# Altium schematic symbol library Sensor_Magnetic.SchLib: 64 symbols
Pins are listed as number, name and electrical type; pins without a type are passive.

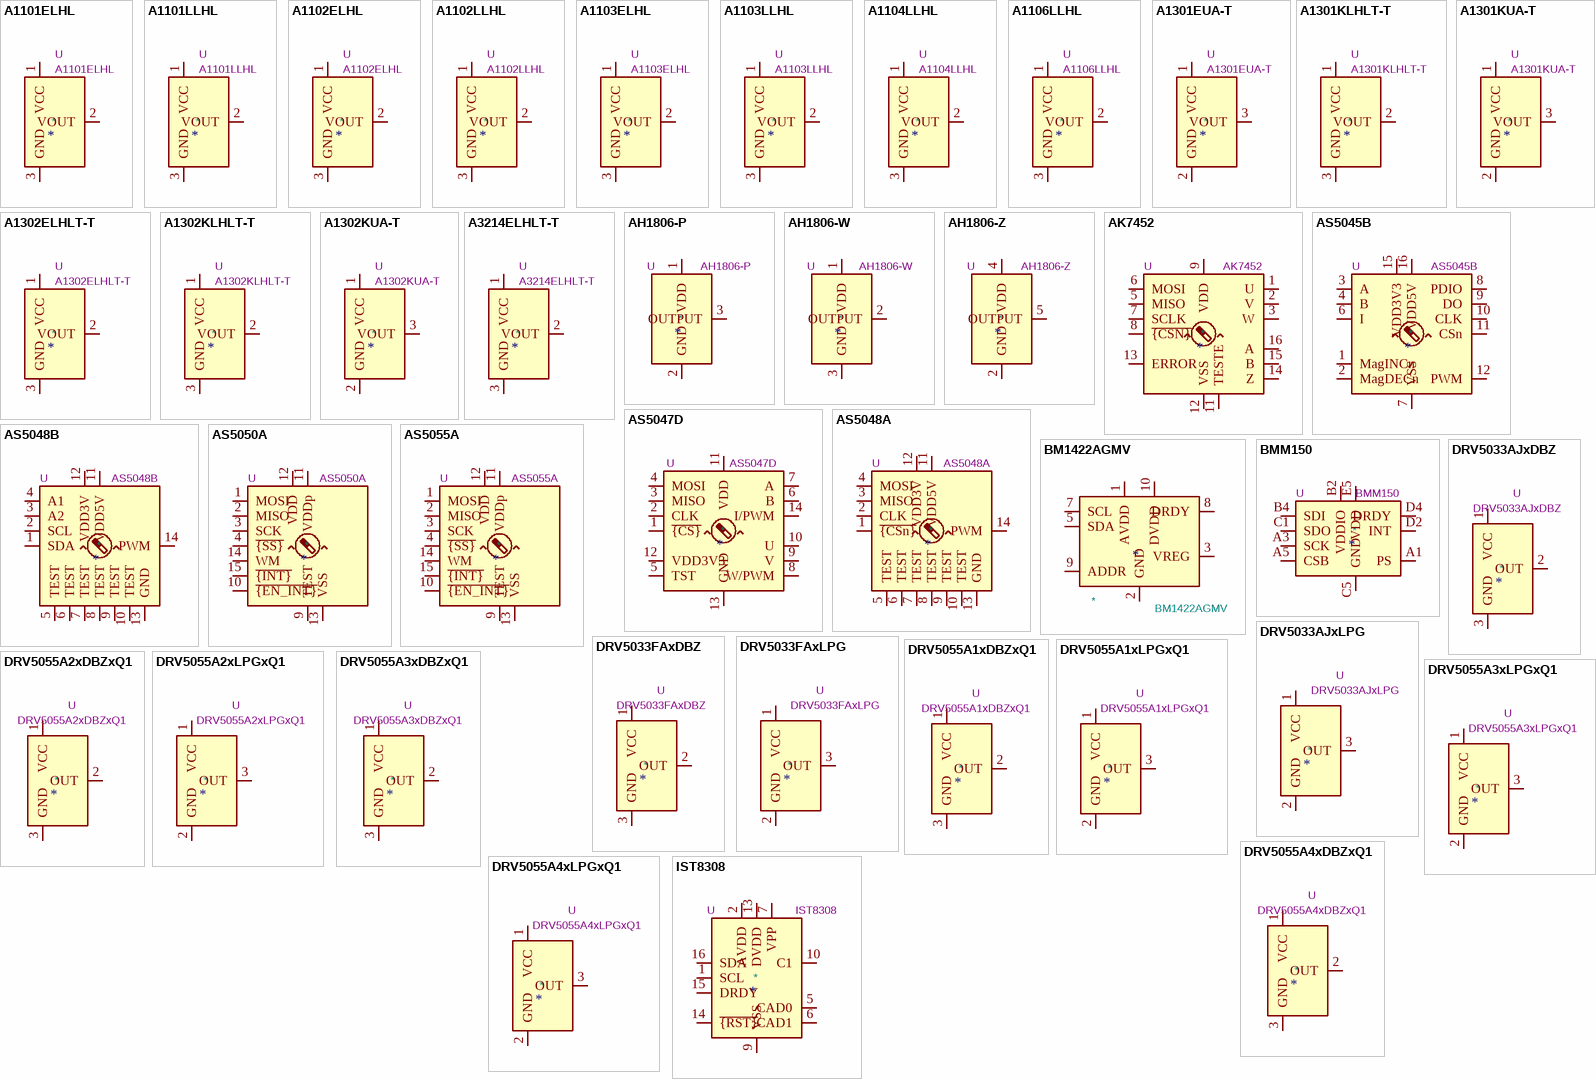
[diagram p0: symbols A1101ELHL to IST8308]

## A1101ELHL
designator *  value A1101ELHL  Reference: U
ki_keywords: hall switch; ki_description: Hall effect switch, unipolar, Bop=100G, Brp=45G, -40C to +85C, SOT-23W; ki_fp_filters: SOT?23*; Footprint: Package_TO_SOT_SMD:SOT-23W; Datasheet: https://www.allegromicro.com/-/media/files/datasheets/a110x-datasheet.ashx
pins: 1 VCC, 2 VOUT, 3 GND

## A1101LLHL
designator *  value A1101LLHL  Reference: U
ki_keywords: hall switch; ki_description: Hall effect switch, unipolar, Bop=100G, Brp=45G, -40C to +125C, SOT-23W; ki_fp_filters: SOT?23*; Footprint: Package_TO_SOT_SMD:SOT-23W; Datasheet: https://www.allegromicro.com/-/media/files/datasheets/a110x-datasheet.ashx
pins: 1 VCC, 2 VOUT, 3 GND

## A1102ELHL
designator *  value A1102ELHL  Reference: U
ki_keywords: hall switch; ki_description: Hall effect switch, unipolar, Bop=180G, Brp=125G, -40C to +85C, SOT-23W; ki_fp_filters: SOT?23*; Footprint: Package_TO_SOT_SMD:SOT-23W; Datasheet: https://www.allegromicro.com/-/media/files/datasheets/a110x-datasheet.ashx
pins: 1 VCC, 2 VOUT, 3 GND

## A1102LLHL
designator *  value A1102LLHL  Reference: U
ki_keywords: hall switch; ki_description: Hall effect switch, unipolar, Bop=180G, Brp=125G, -40C to +125C, SOT-23W; ki_fp_filters: SOT?23*; Footprint: Package_TO_SOT_SMD:SOT-23W; Datasheet: https://www.allegromicro.com/-/media/files/datasheets/a110x-datasheet.ashx
pins: 1 VCC, 2 VOUT, 3 GND

## A1103ELHL
designator *  value A1103ELHL  Reference: U
ki_keywords: hall switch; ki_description: Hall effect switch, unipolar, Bop=280G, Brp=225G, -40C to +85C, SOT-23W; ki_fp_filters: SOT?23*; Footprint: Package_TO_SOT_SMD:SOT-23W; Datasheet: https://www.allegromicro.com/-/media/files/datasheets/a110x-datasheet.ashx
pins: 1 VCC, 2 VOUT, 3 GND

## A1103LLHL
designator *  value A1103LLHL  Reference: U
ki_keywords: hall switch; ki_description: Hall effect switch, unipolar, Bop=280G, Brp=225G, -40C to +125C, SOT-23W; ki_fp_filters: SOT?23*; Footprint: Package_TO_SOT_SMD:SOT-23W; Datasheet: https://www.allegromicro.com/-/media/files/datasheets/a110x-datasheet.ashx
pins: 1 VCC, 2 VOUT, 3 GND

## A1104LLHL
designator *  value A1104LLHL  Reference: U
ki_keywords: hall switch; ki_description: Hall effect switch, unipolar, Bop=240G, Brp=200G, -40C to +125C, SOT-23W; ki_fp_filters: SOT?23*; Footprint: Package_TO_SOT_SMD:SOT-23W; Datasheet: https://www.allegromicro.com/-/media/files/datasheets/a110x-datasheet.ashx
pins: 1 VCC, 2 VOUT, 3 GND

## A1106LLHL
designator *  value A1106LLHL  Reference: U
ki_keywords: hall switch; ki_description: Hall effect switch, unipolar, Bop=340G, Brp=240G, -40C to +125C, SOT-23W; ki_fp_filters: SOT?23*; Footprint: Package_TO_SOT_SMD:SOT-23W; Datasheet: https://www.allegromicro.com/-/media/files/datasheets/a110x-datasheet.ashx
pins: 1 VCC, 2 VOUT, 3 GND

## A1301EUA-T
designator *  value A1301EUA-T  Reference: U
ki_keywords: hall switch; ki_description: Linear Hall Effect Sensor, SIP 3pin; Datasheet: http://www.allegromicro.com/~/media/Files/Datasheets/A1301-2-Datasheet.ashx
pins: 1 VCC, 2 GND, 3 VOUT

## A1301KLHLT-T
designator *  value A1301KLHLT-T  Reference: U
ki_keywords: hall switch; ki_description: Linear Hall Effect Sensor, SOT-23W; ki_fp_filters: SOT?23W*; Footprint: Package_TO_SOT_SMD:SOT-23W; Datasheet: http://www.allegromicro.com/~/media/Files/Datasheets/A1301-2-Datasheet.ashx
pins: 1 VCC, 2 VOUT, 3 GND

## A1301KUA-T
designator *  value A1301KUA-T  Reference: U
ki_keywords: hall switch; ki_description: Linear Hall Effect Sensor, SIP 3pin; Datasheet: http://www.allegromicro.com/~/media/Files/Datasheets/A1301-2-Datasheet.ashx
pins: 1 VCC, 2 GND, 3 VOUT

## A1302ELHLT-T
designator *  value A1302ELHLT-T  Reference: U
ki_keywords: hall switch; ki_description: Linear Hall Effect Sensor, SOT-23W; ki_fp_filters: SOT?23W*; Footprint: Package_TO_SOT_SMD:SOT-23W; Datasheet: http://www.allegromicro.com/~/media/Files/Datasheets/A1301-2-Datasheet.ashx
pins: 1 VCC, 2 VOUT, 3 GND

## A1302KLHLT-T
designator *  value A1302KLHLT-T  Reference: U
ki_keywords: hall switch; ki_description: Linear Hall Effect Sensor, SOT-23W; ki_fp_filters: SOT?23W*; Footprint: Package_TO_SOT_SMD:SOT-23W; Datasheet: http://www.allegromicro.com/~/media/Files/Datasheets/A1301-2-Datasheet.ashx
pins: 1 VCC, 2 VOUT, 3 GND

## A1302KUA-T
designator *  value A1302KUA-T  Reference: U
ki_keywords: hall switch; ki_description: Linear Hall Effect Sensor, SIP 3pin; Datasheet: http://www.allegromicro.com/~/media/Files/Datasheets/A1301-2-Datasheet.ashx
pins: 1 VCC, 2 GND, 3 VOUT

## A3214ELHLT-T
designator *  value A3214ELHLT-T  Reference: U
ki_keywords: hall switch; ki_description: Linear Hall Effect Sensor, SOT-23W; ki_fp_filters: SOT?23W*; Footprint: Package_TO_SOT_SMD:SOT-23W; Datasheet: http://www.allegromicro.com/~/media/Files/Datasheets/A3213-4-Datasheet.ashx
pins: 1 VCC, 2 VOUT, 3 GND

## AH1806-P
designator *  value AH1806-P  Reference: U
ki_keywords: hall switch; ki_description: High Sensitivity Micropower Omnipolar Hall-Effect Switch, SIP-3; ki_fp_filters: Diodes*SIP*4.1x1.5mm*P1.27mm* Diodes*SIP*4.1x1.5mm*P2.65mm*; Datasheet: https://www.diodes.com/assets/Datasheets/AH1806.pdf
pins: 1 VDD, 2 GND, 3 OUTPUT

## AH1806-W
designator *  value AH1806-W  Reference: U
ki_keywords: hall switch; ki_description: High Sensitivity Micropower Omnipolar Hall-Effect Switch, SC-59; ki_fp_filters: SC?59*; Footprint: Package_TO_SOT_SMD:SC-59; Datasheet: https://www.diodes.com/assets/Datasheets/AH1806.pdf
pins: 1 VDD, 2 OUTPUT, 3 GND

## AH1806-Z
designator *  value AH1806-Z  Reference: U
ki_keywords: hall switch; ki_description: High Sensitivity Micropower Omnipolar Hall-Effect Switch, SOT-553; ki_fp_filters: SOT*553*; Footprint: Package_TO_SOT_SMD:SOT-553; Datasheet: https://www.diodes.com/assets/Datasheets/AH1806.pdf
pins: 1 NC hidden, 2 GND, 3 NC hidden, 4 VDD, 5 OUTPUT

## AK7452
designator *  value AK7452  Reference: U
ki_keywords: sensor magnetic hall position rotation spi; ki_description: Magnetic rotary angle sensor, 14-bit, SPI interface, ABZ, UVW, TSSOP-16; ki_fp_filters: TSSOP*4.4x5mm*P0.65mm*; Footprint: Package_SO:TSSOP-16_4.4x5mm_P0.65mm; Datasheet: https://www.akm.com/akm/en/file/datasheet/AK7452.pdf
pins: 1 U, 2 V, 3 W, 4 NC hidden, 5 MISO, 6 MOSI, 7 SCLK, 8 ~{{CSN}}, 9 VDD, 10 NC hidden, 11 TESTE, 12 VSS, 13 ERROR, 14 Z, 15 B, 16 A

## AS5045B
designator *  value AS5045B  Reference: U
ki_keywords: Magnetic Hall Encoder; ki_description: Magnetic Position Sensor, 12-bit, PWM Output, ABI Output, SPI Interface, SSOP-16; ki_fp_filters: SSOP*5.3x6.2mm*P0.65mm*; Footprint: Package_SO:SSOP-16_5.3x6.2mm_P0.65mm; Datasheet: https://ams.com/documents/20143/36005/AS5045B_DS000397_2-00.pdf
pins: 1 MagINCn, 2 MagDECn, 3 A, 4 B, 5 NC hidden, 6 I, 7 VSS, 8 PDIO, 9 DO, 10 CLK, 11 CSn, 12 PWM, 13 NC hidden, 14 NC hidden, 15 VDD3V3, 16 VDD5V

## AS5047D
designator *  value AS5047D  Reference: U
ki_keywords: Magnetic Hall Sensor; ki_description: On-Axis Magnetic Position Sensor, 14-bit, PWM Output, ABI Output, UVW Output, SPI Interface, TSSOP-14; ki_fp_filters: TSSOP*4.4x5mm*P0.65mm*; Footprint: Package_SO:TSSOP-14_4.4x5mm_P0.65mm; Datasheet: https://ams.com/documents/20143/36005/AS5047D_DS000394_2-00.pdf
pins: 1 ~{{CS}}, 2 CLK, 3 MISO, 4 MOSI, 5 TST, 6 B, 7 A, 8 W/PWM, 9 V, 10 U, 11 VDD, 12 VDD3V3, 13 GND, 14 I/PWM

## AS5048A
designator *  value AS5048A  Reference: U
ki_keywords: sensor magnetic hall position rotation spi; ki_description: Magnetic position sensor, 14-bit, PWM output, SPI Interface, TSSOP-14; ki_fp_filters: TSSOP*4.4x5mm*P0.65mm*; Footprint: Package_SO:TSSOP-14_4.4x5mm_P0.65mm; Datasheet: https://ams.com/documents/20143/36005/AS5048_DS000298_4-00.pdf
pins: 1 ~{{CSn}}, 2 CLK, 3 MISO, 4 MOSI, 5 TEST, 6 TEST, 7 TEST, 8 TEST, 9 TEST, 10 TEST, 11 VDD5V, 12 VDD3V, 13 GND, 14 PWM

## AS5048B
designator *  value AS5048B  Reference: U
ki_keywords: sensor magnetic hall position rotation i2c; ki_description: Magnetic position sensor, 14-bit, PWM output, I2C Interface, TSSOP-14; ki_fp_filters: TSSOP*4.4x5mm*P0.65mm*; Footprint: Package_SO:TSSOP-14_4.4x5mm_P0.65mm; Datasheet: https://ams.com/documents/20143/36005/AS5048_DS000298_4-00.pdf
pins: 1 SDA, 2 SCL, 3 A2, 4 A1, 5 TEST, 6 TEST, 7 TEST, 8 TEST, 9 TEST, 10 TEST, 11 VDD5V, 12 VDD3V, 13 GND, 14 PWM

## AS5050A
designator *  value AS5050A  Reference: U
ki_keywords: sensor magnetic hall position rotation spi; ki_description: Magnetic position sensor, 10-bit, SPI interface, QFN-16; ki_fp_filters: QFN*1EP*4x4mm*P0.65mm*PullBack*; Footprint: Package_DFN_QFN:QFN-16-1EP_4x4mm_P0.65mm_EP2.7x2.7mm_PullBack; Datasheet: https://ams.com/documents/20143/36005/AS5055A_DS000304_2-00.pdf
pins: 1 MOSI, 2 MISO, 3 SCK, 4 ~{{SS}}, 5 NC hidden, 6 NC hidden, 7 NC hidden, 8 NC hidden, 9 TEST, 10 ~{{EN_INT}}, 11 VDDp, 12 VDD, 13 VSS, 14 WM, 15 ~{{INT}}, 16 NC hidden, 17 NC hidden

## AS5055A
designator *  value AS5055A  Reference: U
ki_keywords: sensor magnetic hall position rotation spi; ki_description: Magnetic position sensor, 12-bit, SPI interface, QFN-16; ki_fp_filters: QFN*1EP*4x4mm*P0.65mm*PullBack*; Footprint: Package_DFN_QFN:QFN-16-1EP_4x4mm_P0.65mm_EP2.7x2.7mm_PullBack; Datasheet: https://ams.com/documents/20143/36005/AS5055A_DS000304_2-00.pdf
pins: 1 MOSI, 2 MISO, 3 SCK, 4 ~{{SS}}, 5 NC hidden, 6 NC hidden, 7 NC hidden, 8 NC hidden, 9 TEST, 10 ~{{EN_INT}}, 11 VDDp, 12 VDD, 13 VSS, 14 WM, 15 ~{{INT}}, 16 NC hidden, 17 NC hidden

## BM1422AGMV
designator *  value BM1422AGMV
ki_keywords: 3D 3axis magnetometer magnetic sensor I2C; ki_description: Low power 3axis magnetic sensor, I2C interface, MLGA010V020A; ki_fp_filters: *MLGA010V020A*; Footprint: Package_LGA:Rohm_MLGA010V020A_LGA-10_2x2mm_P0.45mm_LayoutBorder_3x2y; Supplier: https://fscdn.rohm.com/en/products/databook/datasheet/ic/sensor/geomagnetic/bm1422agmv-e.pdf
footprint Rohm_MLGA010V020A_LGA-10_2x2mm_P0.45mm_LayoutBorder_3x2y
pins: 1 AVDD, 2 GND, 3 VREG, 4 TEST1 hidden, 5 SDA, 6 TEST2 hidden, 7 SCL, 8 DRDY, 9 ADDR, 10 DVDD

## BMM150
designator *  value BMM150  Reference: U
ki_keywords: BOSH Geomagnetic Sensor; ki_description: Geomagnetic Sensor, WLCSP-12; ki_fp_filters: WLCSP*1.56x1.56mm*P0.4mm*; Footprint: Package_CSP:WLCSP-12_1.56x1.56mm_P0.4mm; Datasheet: https://www.mouser.com/datasheet/2/783/BST-BMM150-DS001-01-786480.pdf
pins: A1 PS, A3 SCK, A5 CSB, B2 VDDIO, B4 SDI, C1 SDO, C5 GND, D2 INT, D4 DRDY, E1 GND hidden, E3 GND hidden, E5 VDD

## DRV5033AJxDBZ
designator *  value DRV5033AJxDBZ  Reference: U
ki_keywords: Digital Omnipolar Switch Hall Effect Sensor; ki_description: ±6.9 / ±3.5 mT, 20-kHz, 2-38V, SOT-23; ki_fp_filters: SOT?23*; Footprint: Package_TO_SOT_SMD:SOT-23; Datasheet: https://www.ti.com/lit/ds/symlink/drv5033.pdf
pins: 1 VCC, 2 OUT, 3 GND

## DRV5033AJxLPG
designator *  value DRV5033AJxLPG  Reference: U
ki_keywords: Digital Omnipolar Switch Hall Effect Sensor; ki_description: ±6.9 / ±3.5 mT, 20-kHz, 2-38V, TO-92; ki_fp_filters: TO?92*; Footprint: Package_TO_SOT_THT:TO-92_Inline; Datasheet: https://www.ti.com/lit/ds/symlink/drv5033.pdf
pins: 1 VCC, 2 GND, 3 OUT

## DRV5033FAxDBZ
designator *  value DRV5033FAxDBZ  Reference: U
ki_keywords: Digital Omnipolar Switch Hall Effect Sensor; ki_description: ±3.5 / ±2 mT, 20-kHz, 2-38V, SOT-23; ki_fp_filters: SOT?23*; Footprint: Package_TO_SOT_SMD:SOT-23; Datasheet: https://www.ti.com/lit/ds/symlink/drv5033.pdf
pins: 1 VCC, 2 OUT, 3 GND

## DRV5033FAxLPG
designator *  value DRV5033FAxLPG  Reference: U
ki_keywords: Digital Omnipolar Switch Hall Effect Sensor; ki_description: ±3.5 / ±2 mT, 20-kHz, 2-38V, TO-92; ki_fp_filters: TO?92*; Footprint: Package_TO_SOT_THT:TO-92_Inline; Datasheet: https://www.ti.com/lit/ds/symlink/drv5033.pdf
pins: 1 VCC, 2 GND, 3 OUT

## DRV5055A1xDBZxQ1
designator *  value DRV5055A1xDBZxQ1  Reference: U
ki_keywords: Automotive Ratiometric Linear Hall Effect Sensor AEC-Q100; ki_description: 100 mV/mT,±21-mT, 20-kHz, 3.3/5V, SOT-23; ki_fp_filters: SOT?23*; Footprint: Package_TO_SOT_SMD:SOT-23; Datasheet: https://www.ti.com/lit/ds/symlink/drv5055-q1.pdf
pins: 1 VCC, 2 OUT, 3 GND

## DRV5055A1xLPGxQ1
designator *  value DRV5055A1xLPGxQ1  Reference: U
ki_keywords: Automotive Ratiometric Linear Hall Effect Sensor AEC-Q100; ki_description: 100 mV/mT,±21-mT, 20-kHz, 3.3/5V, TO-92; ki_fp_filters: TO?92*; Footprint: Package_TO_SOT_THT:TO-92_Inline; Datasheet: https://www.ti.com/lit/ds/symlink/drv5055-q1.pdf
pins: 1 VCC, 2 GND, 3 OUT

## DRV5055A2xDBZxQ1
designator *  value DRV5055A2xDBZxQ1  Reference: U
ki_keywords: Automotive Ratiometric Linear Hall Effect Sensor AEC-Q100; ki_description: 50 mV/mT,±42-mT, 20-kHz, 3.3/5V, SOT-23; ki_fp_filters: SOT?23*; Footprint: Package_TO_SOT_SMD:SOT-23; Datasheet: https://www.ti.com/lit/ds/symlink/drv5055-q1.pdf
pins: 1 VCC, 2 OUT, 3 GND

## DRV5055A2xLPGxQ1
designator *  value DRV5055A2xLPGxQ1  Reference: U
ki_keywords: Automotive Ratiometric Linear Hall Effect Sensor AEC-Q100; ki_description: 50 mV/mT,±42-mT, 20-kHz, 3.3/5V, TO-92; ki_fp_filters: TO?92*; Footprint: Package_TO_SOT_THT:TO-92_Inline; Datasheet: https://www.ti.com/lit/ds/symlink/drv5055-q1.pdf
pins: 1 VCC, 2 GND, 3 OUT

## DRV5055A3xDBZxQ1
designator *  value DRV5055A3xDBZxQ1  Reference: U
ki_keywords: Automotive Ratiometric Linear Hall Effect Sensor AEC-Q100; ki_description: 25 mV/mT,±85-mT, 20-kHz, 3.3/5V, SOT-23; ki_fp_filters: SOT?23*; Footprint: Package_TO_SOT_SMD:SOT-23; Datasheet: https://www.ti.com/lit/ds/symlink/drv5055-q1.pdf
pins: 1 VCC, 2 OUT, 3 GND

## DRV5055A3xLPGxQ1
designator *  value DRV5055A3xLPGxQ1  Reference: U
ki_keywords: Automotive Ratiometric Linear Hall Effect Sensor AEC-Q100; ki_description: 25 mV/mT,±85-mT, 20-kHz, 3.3/5V, TO-92; ki_fp_filters: TO?92*; Footprint: Package_TO_SOT_THT:TO-92_Inline; Datasheet: https://www.ti.com/lit/ds/symlink/drv5055-q1.pdf
pins: 1 VCC, 2 GND, 3 OUT

## DRV5055A4xDBZxQ1
designator *  value DRV5055A4xDBZxQ1  Reference: U
ki_keywords: Automotive Ratiometric Linear Hall Effect Sensor AEC-Q100; ki_description: 12.5 mV/mT,±169-mT, 20-kHz, 3.3/5V, SOT-23; ki_fp_filters: SOT?23*; Footprint: Package_TO_SOT_SMD:SOT-23; Datasheet: https://www.ti.com/lit/ds/symlink/drv5055-q1.pdf
pins: 1 VCC, 2 OUT, 3 GND

## DRV5055A4xLPGxQ1
designator *  value DRV5055A4xLPGxQ1  Reference: U
ki_keywords: Automotive Ratiometric Linear Hall Effect Sensor AEC-Q100; ki_description: 12.5mV/mT,±169-mT, 20-kHz, 3.3/5V, TO-92; ki_fp_filters: TO?92*; Footprint: Package_TO_SOT_THT:TO-92_Inline; Datasheet: https://www.ti.com/lit/ds/symlink/drv5055-q1.pdf
pins: 1 VCC, 2 GND, 3 OUT

## IST8308
designator *  value IST8308  Reference: U
ki_keywords: magnet field sensor compass; ki_description: 3D Magnetometer, High Sensitivity, I2C Interface, LGA-16; ki_fp_filters: LGA*3x3mm*P0.5mm*; Footprint: Package_LGA:LGA-16_3x3mm_P0.5mm; Datasheet: http://www.isentek.com/en/dlf.php?file=../ISENTEK/(201703-20)IST8308%20Datasheet%20v1.0_brief.pdf
pins: 1 SCL, 2 AVDD, 3 NC hidden, 4 NC hidden, 5 CAD0, 6 CAD1, 7 VPP, 8 NC hidden, 9 VSS, 10 C1, 11 VSS hidden, 12 NC hidden, 13 DVDD, 14 ~{{RST}}, 15 DRDY, 16 SDA

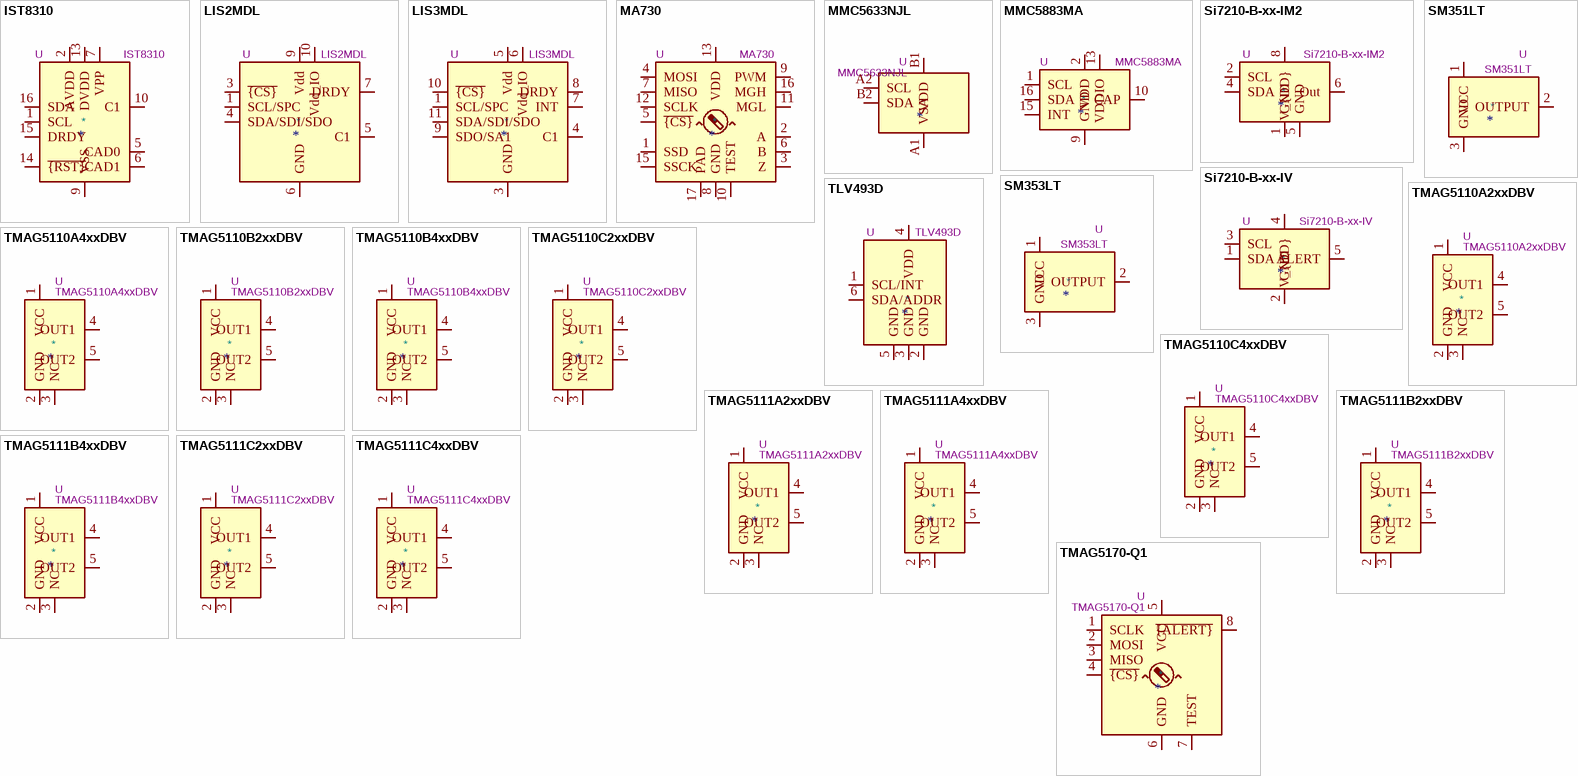
[diagram p1: symbols IST8310 to TMAG5170-Q1]

## IST8310
designator *  value IST8310  Reference: U
ki_keywords: magnet field sensor compass; ki_description: 3D Magnetometer, I2C Interface, LGA-16; ki_fp_filters: LGA*3x3mm*P0.5mm*; Footprint: Package_LGA:LGA-16_3x3mm_P0.5mm; Datasheet: http://www.isentek.com/en/dlf.php?file=../ISENTEK/(201703-09)IST8310%20Datasheet%20v1.2_brief-105.09.20.pdf
pins: 1 SCL, 2 AVDD, 3 NC hidden, 4 NC hidden, 5 CAD0, 6 CAD1, 7 VPP, 8 NC hidden, 9 VSS, 10 C1, 11 VSS hidden, 12 NC hidden, 13 DVDD, 14 ~{{RST}}, 15 DRDY, 16 SDA

## LIS2MDL
designator *  value LIS2MDL  Reference: U
ki_keywords: digital magnetometer; ki_description: Ultra-low-power, 3-axis digital output magnetometer, LGA-12; ki_fp_filters: LGA*2x2mm*P0.5mm*; Footprint: Package_LGA:LGA-12_2x2mm_P0.5mm; Datasheet: https://www.st.com/resource/en/datasheet/lis2mdl.pdf
pins: 1 SCL/SPC, 2 NC hidden, 3 ~{{CS}}, 4 SDA/SDI/SDO, 5 C1, 6 GND, 7 DRDY, 8 GND hidden, 9 Vdd, 10 Vdd_IO, 11 NC hidden, 12 NC hidden

## LIS3MDL
designator *  value LIS3MDL  Reference: U
ki_keywords: digital magnetometer; ki_description: Ultra-low-power, 3-axis digital output magnetometer, LGA-12; ki_fp_filters: LGA*2x2mm*P0.5mm*; Footprint: Package_LGA:LGA-12_2x2mm_P0.5mm; Datasheet: https://www.st.com/resource/en/datasheet/lis3mdl.pdf
pins: 1 SCL/SPC, 2 GND hidden, 3 GND, 4 C1, 5 Vdd, 6 Vdd_IO, 7 INT, 8 DRDY, 9 SDO/SA1, 10 ~{{CS}}, 11 SDA/SDI/SDO, 12 GND hidden

## MA730
designator *  value MA730  Reference: U
ki_keywords: sensor magnetic hall position rotation spi; ki_description: Magnetic rotary angle sensor, 14-bit, SPI interface, ABZ, PWM, QFN-16; ki_fp_filters: QFN*1EP*3x3mm*P0.5mm*; Footprint: Package_DFN_QFN:QFN-16-1EP_3x3mm_P0.5mm_EP1.75x1.75mm; Datasheet: https://www.monolithicpower.com/pub/media/document/m/a/ma730_r1.01.pdf
pins: 1 SSD, 2 A, 3 Z, 4 MOSI, 5 ~{{CS}}, 6 B, 7 MISO, 8 GND, 9 PWM, 10 TEST, 11 MGL, 12 SCLK, 13 VDD, 14 NC hidden, 15 SSCK, 16 MGH, 17 PAD

## MMC5633NJL
designator *  value MMC5633NJL  Reference: U
ki_keywords: I2C I3C magnetic 3-axis sensor magnetometer AMR magnetoresistance; ki_description: 3-axis AMR Magnetometer, 30 G, I2C & I3C  Interface, 2mG RMS, WLP-4; ki_fp_filters: WLP*0.86x0.86mm?P0.4mm*; Footprint: Package_BGA:WLP-4_0.86x0.86mm_P0.4mm; Datasheet: http://www.memsic.com/uploadfiles/2020/08/20200827165106864.pdf
pins: A1 VSA, A2 SCL, B1 VDD, B2 SDA

## MMC5883MA
designator *  value MMC5883MA  Reference: U
ki_keywords: I2C magnetic 3-axis sensor; ki_description: 3-axis Magnetic Sensor, I2C Interface, LGA-16; ki_fp_filters: *LGA*3x3mm*P0.5mm*; Footprint: Package_LGA:LGA-16_3x3mm_P0.5mm; Datasheet: http://www.memsic.com/userfiles/files/DataSheets/Magnetic-Sensors-Datasheets/MMC5883MA-RevC.pdf
pins: 1 SCL, 2 VDD, 3 NC hidden, 4 NC hidden, 5 NC hidden, 6 NC hidden, 7 NC hidden, 8 NC hidden, 9 GND, 10 CAP, 11 GND hidden, 12 NC hidden, 13 VDDIO, 14 NC hidden, 15 INT, 16 SDA

## Si7210-B-xx-IM2
designator *  value Si7210-B-xx-IM2  Reference: U
ki_keywords: I2C hall effect magnetic postition temperature sensor; ki_description: I2C Hall Effect Magnetic Position and Temperature Sensor, TDFN-8; ki_fp_filters: TDFN-8*1.4x1.6mm*P0.4mm*; Footprint: Package_DFN_QFN:TDFN-8_1.4x1.6mm_P0.4mm; Datasheet: https://www.silabs.com/documents/public/data-sheets/si7210-datasheet.pdf
pins: 1 GND, 2 SCL, 4 SDA, 5 GND, 6 Out, 8 V_{DD}

## Si7210-B-xx-IV
designator *  value Si7210-B-xx-IV  Reference: U
ki_keywords: I2C hall effect magnetic postition temperature sensor; ki_description: I2C Hall Effect Magnetic Position and Temperature Sensor, SOT-23-5; ki_fp_filters: SOT-23-5*; Footprint: Package_TO_SOT_SMD:SOT-23-5; Datasheet: https://www.silabs.com/documents/public/data-sheets/si7210-datasheet.pdf
pins: 1 SDA, 2 GND, 3 SCL, 4 V_{DD}, 5 ALERT

## SM351LT
designator *  value SM351LT  Reference: U
ki_keywords: Hall Effect Switch Sensor; ki_description: Hall Effect Switch, SOT-23; ki_fp_filters: SOT?23*; Footprint: Package_TO_SOT_SMD:SOT-23; Datasheet: https://sensing.honeywell.com/honeywell-sensing-nanopower-series-product-sheet-50095501-a-en.pdf
pins: 1 VCC, 2 OUTPUT, 3 GND

## SM353LT
designator *  value SM353LT  Reference: U
ki_keywords: Hall Effect Switch Sensor; ki_description: Hall Effect Switch, SOT-23; ki_fp_filters: SOT?23*; Footprint: Package_TO_SOT_SMD:SOT-23; Datasheet: https://sensing.honeywell.com/honeywell-sensing-nanopower-series-product-sheet-50095501-a-en.pdf
pins: 1 VCC, 2 OUTPUT, 3 GND

## TLV493D
designator *  value TLV493D  Reference: U
ki_keywords: magnetic field i2c; ki_description: Low power 3D magnetic sensor, I2C interface, SOT-23-6; ki_fp_filters: SOT?23*; Footprint: Package_TO_SOT_SMD:SOT-23-6; Datasheet: http://www.infineon.com/dgdl/Infineon-TLV493D-A1B6-DS-v01_00-EN.pdf?fileId=5546d462525dbac40152a6b85c760e80
pins: 1 SCL/INT, 2 GND, 3 GND, 4 VDD, 5 GND, 6 SDA/ADDR

## TMAG5110A2xxDBV
designator *  value TMAG5110A2xxDBV  Reference: U
ki_keywords: hall switch; ki_description: 2-dimensional, dual channel, Hall effect latch, XY, 1.4 mT, SOT-23-5; ki_fp_filters: SOT?23*; Footprint: Package_TO_SOT_SMD:SOT-23-5; Datasheet: https://www.ti.com/lit/ds/symlink/tmag5110.pdf
pins: 1 VCC, 2 GND, 3 NC, 4 OUT1, 5 OUT2

## TMAG5110A4xxDBV
designator *  value TMAG5110A4xxDBV  Reference: U
ki_keywords: hall switch; ki_description: 2-dimensional, dual channel, Hall effect latch, XY, 3 mT, SOT-23-5; ki_fp_filters: SOT?23*; Footprint: Package_TO_SOT_SMD:SOT-23-5; Datasheet: https://www.ti.com/lit/ds/symlink/tmag5110.pdf
pins: 1 VCC, 2 GND, 3 NC, 4 OUT1, 5 OUT2

## TMAG5110B2xxDBV
designator *  value TMAG5110B2xxDBV  Reference: U
ki_keywords: hall switch; ki_description: 2-dimensional, dual channel, Hall effect latch, ZX, 1.4 mT, SOT-23-5; ki_fp_filters: SOT?23*; Footprint: Package_TO_SOT_SMD:SOT-23-5; Datasheet: https://www.ti.com/lit/ds/symlink/tmag5110.pdf
pins: 1 VCC, 2 GND, 3 NC, 4 OUT1, 5 OUT2

## TMAG5110B4xxDBV
designator *  value TMAG5110B4xxDBV  Reference: U
ki_keywords: hall switch; ki_description: 2-dimensional, dual channel, Hall effect latch, ZX, 3 mT, SOT-23-5; ki_fp_filters: SOT?23*; Footprint: Package_TO_SOT_SMD:SOT-23-5; Datasheet: https://www.ti.com/lit/ds/symlink/tmag5110.pdf
pins: 1 VCC, 2 GND, 3 NC, 4 OUT1, 5 OUT2

## TMAG5110C2xxDBV
designator *  value TMAG5110C2xxDBV  Reference: U
ki_keywords: hall switch; ki_description: 2-dimensional, dual channel, Hall effect latch, ZY, 1.4 mT, SOT-23-5; ki_fp_filters: SOT?23*; Footprint: Package_TO_SOT_SMD:SOT-23-5; Datasheet: https://www.ti.com/lit/ds/symlink/tmag5110.pdf
pins: 1 VCC, 2 GND, 3 NC, 4 OUT1, 5 OUT2

## TMAG5110C4xxDBV
designator *  value TMAG5110C4xxDBV  Reference: U
ki_keywords: hall switch; ki_description: 2-dimensional, dual channel, Hall effect latch, ZY, 3  mT, SOT-23-5; ki_fp_filters: SOT?23*; Footprint: Package_TO_SOT_SMD:SOT-23-5; Datasheet: https://www.ti.com/lit/ds/symlink/tmag5110.pdf
pins: 1 VCC, 2 GND, 3 NC, 4 OUT1, 5 OUT2

## TMAG5111A2xxDBV
designator *  value TMAG5111A2xxDBV  Reference: U
ki_keywords: hall switch; ki_description: 2-dimensional, dual channel, speed & dir output, Hall effect latch, XY, 1.4 mT, SOT-23-5; ki_fp_filters: SOT?23*; Footprint: Package_TO_SOT_SMD:SOT-23-5; Datasheet: https://www.ti.com/lit/ds/symlink/tmag5111.pdf
pins: 1 VCC, 2 GND, 3 NC, 4 OUT1, 5 OUT2

## TMAG5111A4xxDBV
designator *  value TMAG5111A4xxDBV  Reference: U
ki_keywords: hall switch; ki_description: 2-dimensional, dual channel, speed & dir output, Hall effect latch, XY, 3 mT, SOT-23-5; ki_fp_filters: SOT?23*; Footprint: Package_TO_SOT_SMD:SOT-23-5; Datasheet: https://www.ti.com/lit/ds/symlink/tmag5111.pdf
pins: 1 VCC, 2 GND, 3 NC, 4 OUT1, 5 OUT2

## TMAG5111B2xxDBV
designator *  value TMAG5111B2xxDBV  Reference: U
ki_keywords: hall switch; ki_description: 2-dimensional, dual channel, speed & dir output, Hall effect latch, ZX, 1.4 mT, SOT-23-5; ki_fp_filters: SOT?23*; Footprint: Package_TO_SOT_SMD:SOT-23-5; Datasheet: https://www.ti.com/lit/ds/symlink/tmag5111.pdf
pins: 1 VCC, 2 GND, 3 NC, 4 OUT1, 5 OUT2

## TMAG5111B4xxDBV
designator *  value TMAG5111B4xxDBV  Reference: U
ki_keywords: hall switch; ki_description: 2-dimensional, dual channel, speed & dir output, Hall effect latch, ZX, 3 mT, SOT-23-5; ki_fp_filters: SOT?23*; Footprint: Package_TO_SOT_SMD:SOT-23-5; Datasheet: https://www.ti.com/lit/ds/symlink/tmag5111.pdf
pins: 1 VCC, 2 GND, 3 NC, 4 OUT1, 5 OUT2

## TMAG5111C2xxDBV
designator *  value TMAG5111C2xxDBV  Reference: U
ki_keywords: hall switch; ki_description: 2-dimensional, dual channel, speed & dir output, Hall effect latch, ZY, 1.4 mT, SOT-23-5; ki_fp_filters: SOT?23*; Footprint: Package_TO_SOT_SMD:SOT-23-5; Datasheet: https://www.ti.com/lit/ds/symlink/tmag5111.pdf
pins: 1 VCC, 2 GND, 3 NC, 4 OUT1, 5 OUT2

## TMAG5111C4xxDBV
designator *  value TMAG5111C4xxDBV  Reference: U
ki_keywords: hall switch; ki_description: 2-dimensional, dual channel, speed & dir output, Hall effect latch, ZY, 3  mT, SOT-23-5; ki_fp_filters: SOT?23*; Footprint: Package_TO_SOT_SMD:SOT-23-5; Datasheet: https://www.ti.com/lit/ds/symlink/tmag5111.pdf
pins: 1 VCC, 2 GND, 3 NC, 4 OUT1, 5 OUT2

## TMAG5170-Q1
designator *  value TMAG5170-Q1  Reference: U
ki_keywords: sensor magnetic hall position rotation spi; ki_description: Magnetic 3-axis linear sensor, 12-bit, Automotive, SPI Interface, VSSOP-8; ki_fp_filters: VSSOP*3.0x3.0mm*P0.65mm*; Footprint: Package_SO:VSSOP-8_3.0x3.0mm_P0.65mm; Datasheet: https://www.ti.com/lit/ds/symlink/tmag5170-q1.pdf
pins: 1 SCLK, 2 MOSI, 3 MISO, 4 ~{{CS}}, 5 VCC, 6 GND, 7 TEST, 8 ~{{ALERT}}